# Altium schematic symbol library Jumper_1x2.54.SchLib: 1 symbol
Pins are listed as number, name and electrical type; pins without a type are passive.

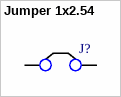
[diagram p0: symbol Jumper 1x2.54]

## Jumper 1x2.54
designator J?  (value not drawn)
footprint Jumper_2.54
pins: 1, 2